# Altium schematic symbol library 7_4V.SchLib: 1 symbol
Pins are listed as number, name and electrical type; pins without a type are passive.

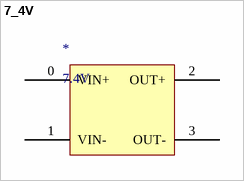
[diagram p0: symbol 7_4V]

## 7_4V
designator *, comment 7.4V
footprint 7_4V
pins: 0 VIN+, 1 VIN-, 2 OUT+, 3 OUT-